# EAGLE library part AD7192 (library analog)
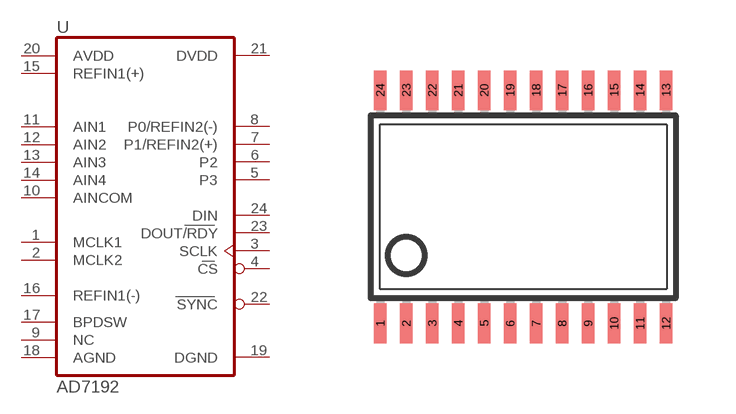
[diagram p0: symbol with the pads of TSSOP24; footprint TSSOP24]

Designator prefix -

## AD7192  [TSSOP24]
1  MCLK1  pwr
2  MCLK2  pwr
3  SCLK  in
4  CS  in
5  P3  hiz
6  P2  hiz
7  P1/REFIN2(+)  out
8  P0/REFIN2(-)  out
9  NC  out
10  AINCOM  out
11  AIN1  in
12  AIN2  in
13  AIN3  in
14  AIN4  out
15  REFIN1(+)  pas
16  REFIN1(-)  pas
17  BPDSW  in
18  AGND  out
19  DGND  out
20  AVDD  hiz
21  DVDD  out
22  SYNC  out
23  DOUT/RDY  out
24  DIN  hiz

## Footprint TSSOP24 (pad centres in mm)
smd 0.305 x 0.991: 1 -3.575,-2.918; 2 -2.925,-2.918; 3 -2.275,-2.918; 4 -1.625,-2.918; 5 -0.975,-2.918; 6 -0.325,-2.918; 7 0.325,-2.918; 8 0.975,-2.918; 9 1.625,-2.918; 10 2.275,-2.918; 11 2.925,-2.918; 12 3.575,-2.918; 13 3.575,2.918; 14 2.925,2.918; 15 2.275,2.918; 16 1.625,2.918; 17 0.975,2.918; 18 0.325,2.918; 19 -0.325,2.918; 20 -0.975,2.918; 21 -1.625,2.918; 22 -2.275,2.918; 23 -2.925,2.918; 24 -3.575,2.918